# Altium schematic symbol library AD8231.Schlib: 1 symbol
Pins are listed as number, name and electrical type; pins without a type are passive.

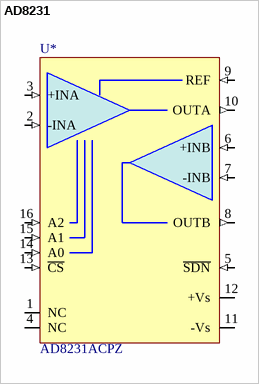
[diagram p0: symbol AD8231]

## AD8231
designator U*, comment AD8231ACPZ
Zero Drift, Digitally Programmable Instrumentation Amplifier
footprint LFCSP-16_AD
pins: 1 NC, 2 -INA (in), 3 +INA (in), 4 NC, 5 ~{SDN} (in), 6 +INB (in), 7 -INB (in), 8 OUTB (out), 9 REF (in), 10 OUTA (out), 11 -Vs (power), 12 +Vs (power), 13 ~{CS} (in), 14 A0 (in), 15 A1 (in), 16 A2 (in)